# Altium schematic symbol library SamacSys.SchLib: 10 symbols
Pins are listed as number, name and electrical type; pins without a type are passive.

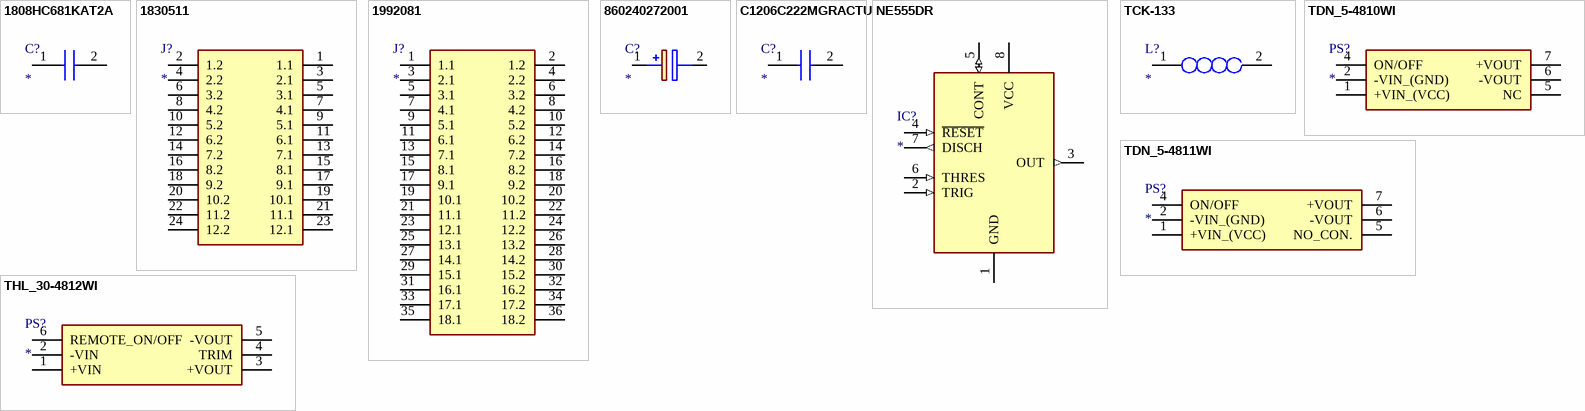
[diagram p0: symbols 1808HC681KAT2A to THL_30-4812WI]

## 1808HC681KAT2A
designator C?
Capacitor; Manufacturer_Name: KYOCERA; Manufacturer_Part_Number: 1808HC681KAT2A; Datasheet Link: https://tz.ocean-components.com/datasheet/f3-79109-0003.pdf; Height: 2.2mm; Mouser Part Number: 581-1808HC681KAT2A; Mouser Price/Stock: https://www.mouser.co.uk/ProductDetail/KYOCERA-AVX/1808HC681KAT2A?qs=ZBeOGGPQgEFjGyEsVtTo0Q%3D%3D
footprint CAPC4620X220N
pins: 1, 2

## 1830511
designator J?
Connector; Manufacturer_Name: Phoenix Contact; Manufacturer_Part_Number: 1830511; Datasheet Link: http://www.phoenixcontact.com/gb/produkte/1830511; Height: 6.3mm; Mouser Part Number: 651-1830511; Mouser Price/Stock: https://www.mouser.co.uk/ProductDetail/Phoenix-Contact/1830511?qs=rgm%252B66FY1gCwKz0ct3Comw%3D%3D
footprint 1830511
pins: 1 1.1, 2 1.2, 3 2.1, 4 2.2, 5 3.1, 6 3.2, 7 4.1, 8 4.2, 9 5.1, 10 5.2, 11 6.1, 12 6.2, 13 7.1, 14 7.2, 15 8.1, 16 8.2, 17 9.1, 18 9.2, 19 10.1, 20 10.2, 21 11.1, 22 11.2, 23 12.1, 24 12.2

## 1992081
designator J?
Connector; Manufacturer_Name: Phoenix Contact; Manufacturer_Part_Number: 1992081; Description: PCB terminal block; Datasheet Link: http://www.phoenixcontact.com/product/1992081; Height: 12.6mm; Mouser Part Number: 651-1992081; Mouser Price/Stock: https://www.mouser.co.uk/ProductDetail/Phoenix-Contact/1992081?qs=fbktEiFqcFGQ0oTE6dogyQ%3D%3D; Arrow Part Number: 1992081; Arrow Price/Stock: https://www.arrow.com/en/products/1992081/phoenix-contact?region=nac
footprint 1992081
pins: 1 1.1, 2 1.2, 3 2.1, 4 2.2, 5 3.1, 6 3.2, 7 4.1, 8 4.2, 9 5.1, 10 5.2, 11 6.1, 12 6.2, 13 7.1, 14 7.2, 15 8.1, 16 8.2, 17 9.1, 18 9.2, 19 10.1, 20 10.2, 21 11.1, 22 11.2, 23 12.1, 24 12.2, 25 13.1, 26 13.2, 27 14.1, 28 14.2, 29 15.1, 30 15.2, 31 16.1, 32 16.2, 33 17.1, 34 17.2, 35 18.1, 36 18.2

## 860240272001
designator C?
Capacitor Polarised; Manufacturer_Name: Wurth Elektronik; Manufacturer_Part_Number: 860240272001; Description: Wurth Elektronik 47uF 10 V dc Aluminium Electrolytic Capacitor; Datasheet Link: https://katalog.we-online.de/pbs/datasheet/860240272001.pdf; Height: 12.5mm; Mouser Part Number: 710-860240272001; Mouser Price/Stock: https://www.mouser.co.uk/ProductDetail/Wurth-Elektronik/860240272001?qs=0KOYDY2FL29xCpvqLh3HEQ%3D%3D
footprint CAPPRD200W52D500H1250
pins: 1 +, 2 -

## C1206C222MGRACTU
designator C?
Capacitor; Manufacturer_Name: KEMET; Manufacturer_Part_Number: C1206C222MGRACTU; Datasheet Link: https://content.kemet.com/datasheets/KEM_C1010_X7R_HV_SMD.pdf; Mouser Part Number: 80-C1206C222MGR; Mouser Price/Stock: https://www.mouser.co.uk/ProductDetail/KEMET/C1206C222MGRACTU?qs=7IaIRco65plTJ9Nffy2tsA%3D%3D
footprint C1206
pins: 1, 2

## NE555DR
designator IC?
Integrated Circuit; Manufacturer_Name: Texas Instruments; Manufacturer_Part_Number: NE555DR; Datasheet Link: http://www.ti.com/lit/ds/symlink/ne555.pdf; Height: 1.75mm; Mouser Part Number: 595-NE555DR; Mouser Price/Stock: https://www.mouser.com/Search/Refine.aspx?Keyword=595-NE555DR; RS Part Number: 1218414; RS Price/Stock: http://uk.rs-online.com/web/p/products/1218414
footprint SOIC127P600X175-8N
pins: 1 GND (power), 2 TRIG (in), 3 OUT (out), 4 ~{RESET} (in), 5 CONT (io), 6 THRES (in), 7 DISCH (out), 8 VCC (power)

## TCK-133
designator L?
Inductor; Manufacturer_Name: Traco Power; Manufacturer_Part_Number: TCK-133; Datasheet Link: https://tracopower.com/tck-133-datasheet/; Height: 3.7mm; Mouser Part Number: 495-TCK-133; Mouser Price/Stock: https://www.mouser.co.uk/ProductDetail/TRACO-Power/TCK-133?qs=r5DSvlrkXmJj%252BR8COfKvtg%3D%3D; Arrow Part Number: TCK-133; Arrow Price/Stock: https://www.arrow.com/en/products/tck-133/traco-electronic-ag?region=europe
footprint TCK132
pins: 1, 2

## TDN_5-4810WI
designator PS?
Power Supply; Manufacturer_Name: Traco Power; Manufacturer_Part_Number: TDN 5-4810WI; Datasheet Link: https://tracopower.com/tdn5wi-datasheet/; Height: 10mm; Mouser Part Number: 495-TDN5-4810WI; Mouser Price/Stock: https://www.mouser.com/Search/Refine.aspx?Keyword=495-TDN5-4810WI
footprint TDN52412WI
pins: 1 +VIN_(VCC), 2 -VIN_(GND), 4 ON/OFF, 5 NC, 6 -VOUT, 7 +VOUT

## TDN_5-4811WI
designator PS?
Power Supply; Manufacturer_Name: Traco Power; Manufacturer_Part_Number: TDN 5-4811WI; Datasheet Link: https://tracopower.com/tdn5wi-datasheet/; Height: 10mm; Mouser Part Number: 495-TDN5-4811WI; Mouser Price/Stock: https://www.mouser.co.uk/ProductDetail/TRACO-Power/TDN-5-4811WI?qs=NtE2QagKf6SrVWUp%252BNYrKw%3D%3D
footprint TDN52412WI
pins: 1 +VIN_(VCC), 2 -VIN_(GND), 4 ON/OFF, 5 NO_CON., 6 -VOUT, 7 +VOUT

## THL_30-4812WI
designator PS?
Power Supply; Manufacturer_Name: Traco Power; Manufacturer_Part_Number: THL 30-4812WI; Datasheet Link: https://tracopower.com/thl30wi-datasheet/; Height: 10.7mm; Mouser Part Number: 495-THL30-4812WI; Mouser Price/Stock: https://www.mouser.co.uk/ProductDetail/TRACO-Power/THL-30-4812WI?qs=Y0Uzf4wQF3ng5qdKwW3n8Q%3D%3D
footprint THL304812WI
pins: 1 +VIN, 2 -VIN, 3 +VOUT, 4 TRIM, 5 -VOUT, 6 REMOTE_ON/OFF